# Altium footprint library PCB - CONNECTOR - MOLEX - MOLEX 1053091108.PcbLib: 1 footprints
Each footprint in its own frame and in the unit in brackets; x right, y up, seen from the top. Pads: shape width x height; smd on the part's side, far side on the other; paste and mask are expansions set on the pad; w line width, h text height; cw(c..) or ccw(c..) is an arc to the next point about the centre after c.
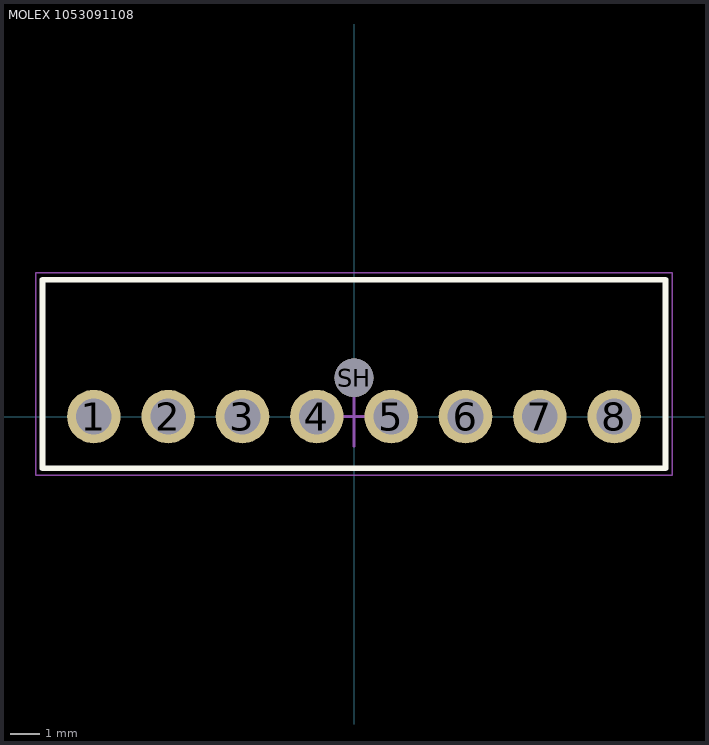
[diagram p0: the footprint, top view; thin cyan lines are the x and y axes]

## MOLEX 1053091108 [mm] "Connector Header Through Hole 8 position, 2mm Pitch, 20.94x6.34 mm Body"
height 10.51
pads (9):
  round 1.8 hole 1.2: 1(-8.75,0) 2(-6.25,0) 3(-3.75,0) 4(-1.25,0) 5(1.25,0) 6(3.75,0) 7(6.25,0) 8(8.75,0)
  round 1.3 hole 1.3: SH(0,1.3)
Top Overlay:
  lines w0.2: -10.47,-1.74 -10.47,4.6 10.47,4.6 10.47,-1.74 -10.47,-1.74
Mechanical 13:
  lines w0.1: -10.47,-1.74 -10.47,4.6 10.47,4.6 10.47,-1.74 -10.47,-1.74
Mechanical 15 (Mech15):
  lines w0.05: -10.7,-1.97 -10.7,4.83 10.7,4.83 10.7,-1.97 -10.7,-1.97
  lines w0.1: -1,0 0,0 ; 0,-1 0,0 ; 0,1 0,0 ; 1,0 0,0
3D body: height 10.51, standoff -3.2, extent -10.47,-1.74 10.47,4.6